# Altium footprint library MSP430_Task.PcbLib: 15 footprints
Each footprint in its own frame and in the unit in brackets; x right, y up, seen from the top. Pads: shape width x height; smd on the part's side, far side on the other; paste and mask are expansions set on the pad; w line width, h text height; cw(c..) or ccw(c..) is an arc to the next point about the centre after c.
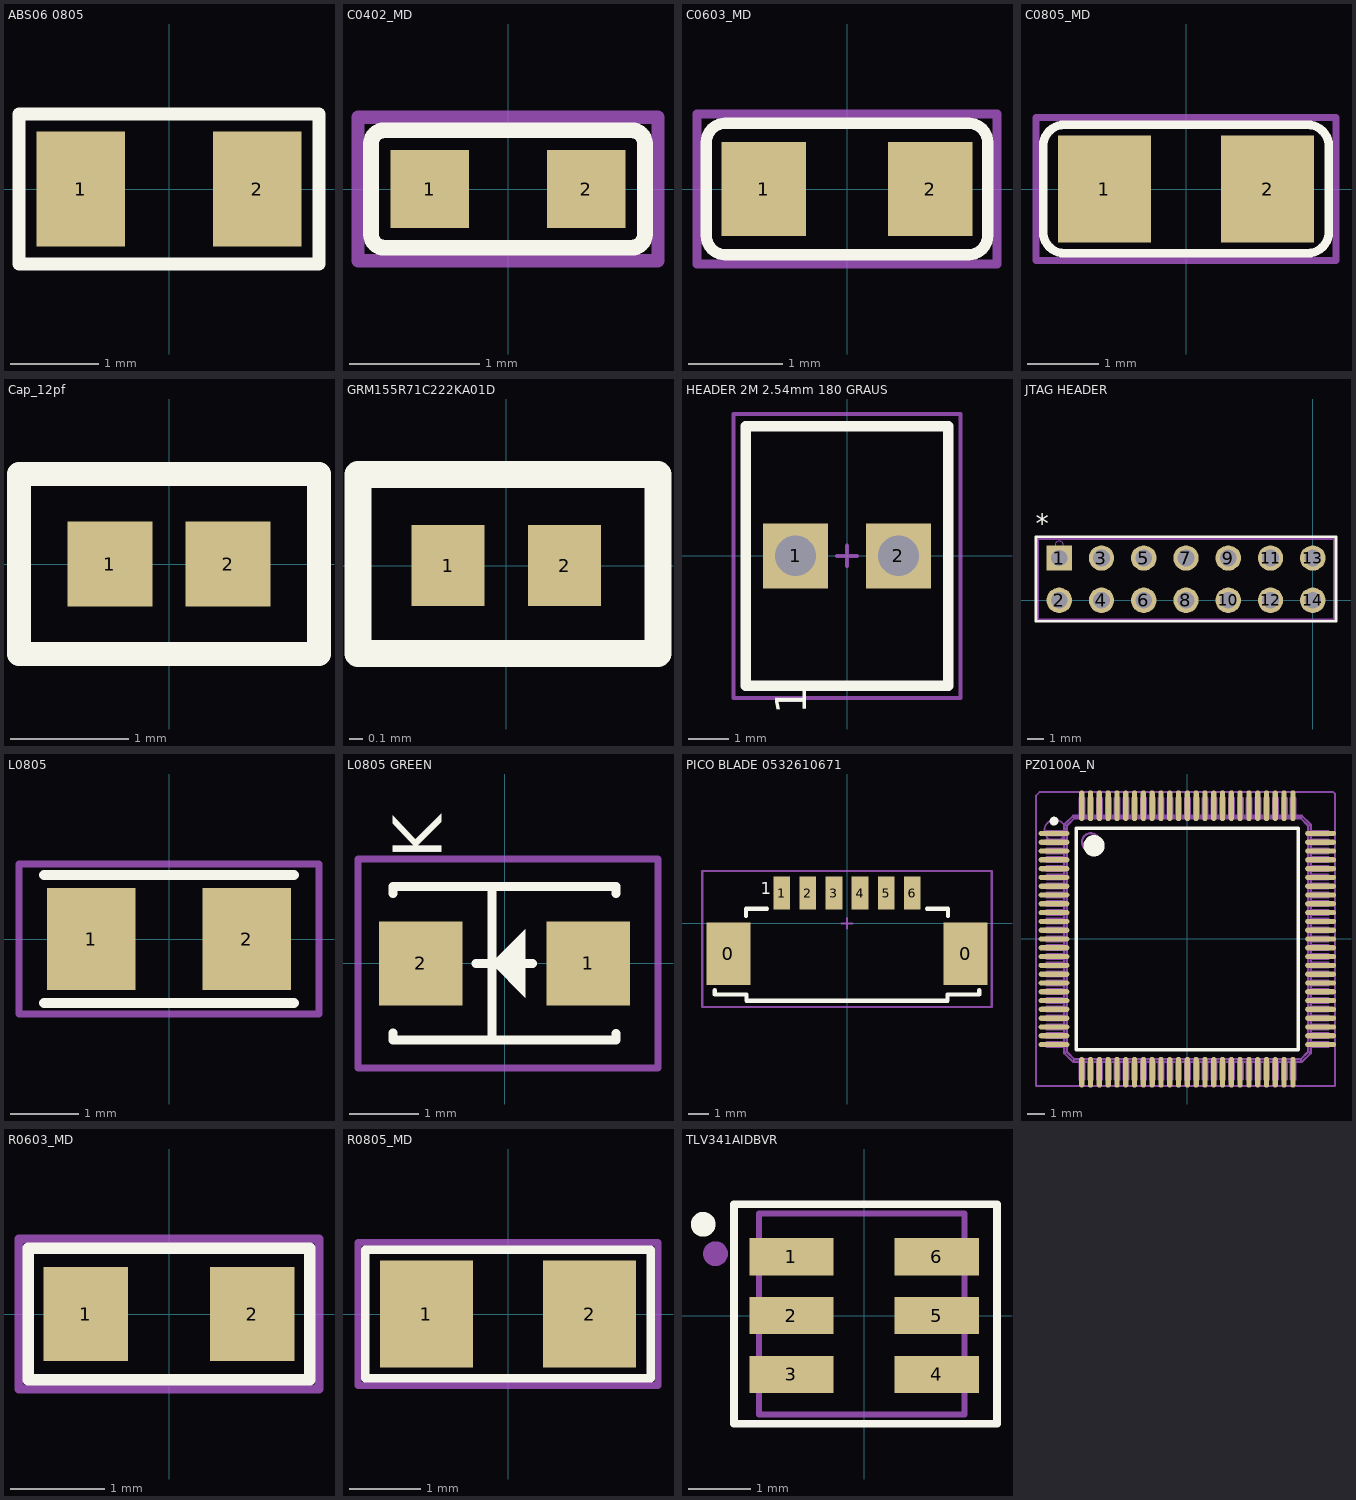
[diagram p0: the footprints below, top view; thin cyan lines are the x and y axes]

## ABS06 0805 [mm]
height 3.1
pads (2):
  rect 1x1.3 smd: 1(-1,0) 2(1,0)
Top Overlay:
  lines w0.15: -1.7,-0.85 1.7,-0.85 1.7,0.85 -1.7,0.85 -1.7,-0.85
Mechanical 15:
  lines w0.1: -1.7,-0.85 -1.7,0.85 ; -1.7,-0.85 1.7,-0.85 ; -1.7,-0.85 1.7,-0.85 ; -1.7,-0.85 -1.7,0.85 ; -1.7,0.85 1.7,0.85 ; -1.7,0.85 1.7,0.85 ; 1.7,-0.85 1.7,0.85 ; 1.7,-0.85 1.7,0.85
  text ".Designator" at -1.45,-0.25 h0.5
3D body "ABS06.STEP": height 0.6, standoff 0, extent -1,-0.61 1,0.61

## C0402_MD [mm] "Chip Capacitor, Body 1.0x0.5mm, IPC Medium Density"
height 0.6
pads (2):
  rect 0.6x0.6 smd: 1(-0.6,0) 2(0.6,0)
Top Overlay:
  lines w0.12: -1.05,-0.35 ccw(c-0.95,-0.35) -0.95,-0.45 0.95,-0.45 ccw(c0.95,-0.35) 1.05,-0.35 1.05,0.35 ccw(c0.95,0.35) 0.95,0.45 -0.95,0.45 ccw(c-0.95,0.35) -1.05,0.35 -1.05,-0.35
Mechanical 15:
  lines w0.1: -1.15,-0.55 -1.15,0.55 1.15,0.55 1.15,-0.55 -1.15,-0.55
  text "'.Designator'" at -0.95,-0.25 h0.5
3D body "C0402.step": height 0.51, standoff 0, extent -0.508,-0.254 0.508,0.254

## C0603_MD [mm] "Chip Capacitor, Body 1.6x0.8mm, IPC Medium Density"
height 0.85
pads (2):
  rect 0.9x1 smd: 1(-0.889,0) 2(0.889,0)
Top Overlay:
  lines w0.12: -1.5,-0.5 ccw(c-1.3,-0.5) -1.3,-0.7 1.3,-0.7 ccw(c1.3,-0.5) 1.5,-0.5 1.5,0.5 ccw(c1.3,0.5) 1.3,0.7 -1.3,0.7 ccw(c-1.3,0.5) -1.5,0.5 -1.5,-0.5
Mechanical 15:
  lines w0.1: -1.6,-0.8 1.6,-0.8 1.6,0.8 -1.6,0.8 -1.6,-0.8
  text "'.Designator'" at -1.425,-0.25 h0.5
3D body "C0603.step": height 0.79, standoff 0, extent -1,-0.406 1,0.381

## C0805_MD [mm] "Chip Capacitor, Body 2.0x1.3mm, IPC Medium Density"
height 1.1
pads (2):
  rect 1.3x1.5 smd: 1(-1.143,0) 2(1.143,0)
Top Overlay:
  lines w0.12: -2,-0.6 ccw(c-1.7,-0.6) -1.7,-0.9 1.7,-0.9 ccw(c1.7,-0.6) 2,-0.6 2,0.6 ccw(c1.7,0.6) 1.7,0.9 -1.7,0.9 ccw(c-1.7,0.6) -2,0.6 -2,-0.6
Mechanical 15:
  lines w0.1: -2.1,-1 -2.1,1 2.1,1 2.1,-1 -2.1,-1
  text "'.Designator'" at -1.85,-0.2 h0.5
3D body "C0805.step": height 0.79, standoff 0, extent -1.254,-0.61 1.254,0.635

## Cap_12pf [mm]
pads (2):
  rect 0.72x0.72 smd: 1(-0.5,0) 2(0.5,0)
Top Overlay:
  lines w0.2: -1.27,-0.762 1.27,-0.762 1.27,0.762 -1.27,0.762 -1.27,-0.762
Mechanical 15:
  lines w0.1: -1.27,-0.762 1.27,-0.762 1.27,0.762 -1.27,0.762 -1.27,-0.762
  text "'.Designator'" at -1.016,-0.254 h0.6
3D body "CBR04C120F5GAC.step": height 0.56, standoff 0.01, extent -0.525,-0.254 0.525,0.296

## GRM155R71C222KA01D [mm]
pads (2):
  rect 0.54x0.6 smd: 1(-0.432,0) 2(0.432,0)
Top Overlay:
  lines w0.2: -1.1,-0.65 -1.1,0.675 1.125,0.675 1.125,-0.65 -1.1,-0.65
Mechanical 15:
  lines w0.1: -1.1,-0.65 1.125,-0.65 1.125,0.675 -1.1,0.675 -1.1,-0.65
  text "'.Designator'" at -0.825,-0.2 h0.5
3D body "EVK105RH010BW-F--3DModel-STEP-46669.STEP": height 0.56, standoff 0.01, extent -0.5,-0.25 0.5,0.25

## HEADER 2M 2.54mm 180 GRAUS [mm] "HEADER 3M 2.54mm 180 GRAUS"
pads (2):
  rect 1.6x1.6 hole 1: 1(-1.27,0) 2(1.27,0)
Top Overlay:
  lines w0.254: -2.5,-3.2 -2.5,3.2 2.5,3.2 2.5,-3.2 -2.5,-3.2
  text "1" at -1,-3.9 h0.76
Mechanical 15:
  lines w0.1: -0.25,0 0.25,0 ; 0,-0.25 0,0.25 ; -2.8,-3.5 -2.8,3.5 2.8,3.5 2.8,-3.5 -2.8,-3.5
  text "'.Designator'" at -2.475,-2.975 h0.5
3D body "HEADER 2M 2.54mm 180 GRAUS.STEP": height 10.68, standoff -3.54, extent -2.54,-3.251 2.54,3.099

## JTAG HEADER [mil]
pads (14):
  rect 60x60 / inner round 60 / far side rect 60x60 hole 38 paste+0 mask+0: 1(-600,100)
  round 60 hole 40 paste+0 mask+0: 2(-600,0) 3(-500,100) 4(-500,0) 5(-400,100) 6(-400,0) 7(-300,100) 8(-300,0) 9(-200,100) 10(-200,0) 11(-100,100) 12(-100,0) 13(0,100) 14(0,0)
Top Overlay:
  lines w6: -655,-50 55,-50 55,150 -655,150 -655,-50
  text "*" at -655,143 h78.74
Mechanical 15:
  circle w0: c-600,130 r10
  lines w3.94: -650,-45 50,-45 50,145 -650,145 -650,-45
  text "'.Designator'" at -526.57,35.43 h39.37
3D body "67996-114HLF.step": height 350, standoff -200, extent -650,-55 50,145

## L0805 [mm]
pads (2):
  rect 1.3x1.5 smd: 1(-1.143,0) 2(1.143,0)
Top Overlay:
  lines w0.15: -1.829,-0.94 1.829,-0.94 ; -1.829,0.94 1.829,0.94
Mechanical 15:
  lines w0.1: -2.2,-1.1 2.2,-1.1 2.2,1.1 -2.2,1.1 -2.2,-1.1
  text "'.Designator'" at -1.775,-0.3 h0.5
3D body "User Library-Chip Inductor (2).step": height 0.95, standoff 0, extent -1,-0.6 1,0.6

## L0805 GREEN [mm]
height 2
pads (2):
  rect 1.2x1.2 smd paste+0: 1(1.2,0) 2(-1.2,0)
Top Overlay:
  region: -0.191,0 0.3,0.49 0.3,-0.49
  lines w0.127: -1.6,-1 -1.6,-1.1 1.6,-1.1 1.6,-1 ; -1.6,1 -1.6,1.1 1.2,1.1 1.6,1.1 ; -0.413,0 0.4,0 ; -0.181,-1.1 -0.181,1.1 ; 1.6,1 1.6,1.1 ; 1.6,1.1 1.6,1.1
  text "K" at -0.9,1.5 h0.7
Mechanical 15:
  lines w0.1: -2.1,-1.5 -2.1,1.5 2.2,1.5 2.2,-1.5 -2.1,-1.5
  text "'.Designator'" at -1.875,-0.275 h0.5
3D body "User Library-led_0805 (1).step": height 1.1, standoff 0, extent -1.01,-0.625 1.01,0.625

## PICO BLADE 0532610671 [mm]
height 3.4
pads (8):
  rect 2.1x3 smd: 0(-5.675,-1.45) 0(5.675,-1.45)
  rect 0.8x1.6 smd: 1(-3.125,1.45) 2(-1.875,1.45) 3(-0.625,1.45) 4(0.625,1.45) 5(1.875,1.45) 6(3.125,1.45)
Top Overlay:
  lines w0.2: -6.325,-3.2 -6.325,-3.4 -4.811,-3.4 -4.811,-3.7 4.811,-3.7 4.811,-3.4 6.325,-3.4 6.325,-3.2 ; -4.825,0.35 -4.825,0.7 -3.825,0.7 ; 3.825,0.7 4.825,0.7 4.825,0.35
  text "1" at -4.125,1.2 h1
Mechanical 15:
  lines w0.1: -0.25,0 0.25,0 ; 0,-0.25 0,0.25 ; -6.925,-4 -6.925,2.5 6.925,2.5 6.925,-4 -6.925,-4
  text "'.Designator'" at -5.425,-1.8 h1
3D body "User Library-molex 53261 white (4).step": height 3.5, standoff 0, extent -6.325,-3.6 6.325,1.6

## PZ0100A_N [mm]
height 3.1
pads (100):
  oval 1.75x0.3 smd paste-0.102 mask+0.051: 1(-7.575,6) 2(-7.575,5.5) 3(-7.575,5) 4(-7.575,4.5) 5(-7.575,4) 6(-7.575,3.5) 7(-7.575,3) 8(-7.575,2.5) 9(-7.575,2) 10(-7.575,1.5) 11(-7.575,1) 12(-7.575,0.5) 13(-7.575,0) 14(-7.575,-0.5) 15(-7.575,-1) 16(-7.575,-1.5) 17(-7.575,-2) 18(-7.575,-2.5) 19(-7.575,-3) 20(-7.575,-3.5) 21(-7.575,-4) 22(-7.575,-4.5) 23(-7.575,-5) 24(-7.575,-5.5) 25(-7.575,-6) 51(7.575,-6) 52(7.575,-5.5) 53(7.575,-5) 54(7.575,-4.5) 55(7.575,-4) 56(7.575,-3.5) 57(7.575,-3) 58(7.575,-2.5) 59(7.575,-2) 60(7.575,-1.5) 61(7.575,-1) 62(7.575,-0.5) 63(7.575,0) 64(7.575,0.5) 65(7.575,1) 66(7.575,1.5) 67(7.575,2) 68(7.575,2.5) 69(7.575,3) 70(7.575,3.5) 71(7.575,4) 72(7.575,4.5) 73(7.575,5) 74(7.575,5.5) 75(7.575,6)
  oval 0.3x1.75 smd paste-0.102 mask+0.051: 26(-6,-7.575) 27(-5.5,-7.575) 28(-5,-7.575) 29(-4.5,-7.575) 30(-4,-7.575) 31(-3.5,-7.575) 32(-3,-7.575) 33(-2.5,-7.575) 34(-2,-7.575) 35(-1.5,-7.575) 36(-1,-7.575) 37(-0.5,-7.575) 38(0,-7.575) 39(0.5,-7.575) 40(1,-7.575) 41(1.5,-7.575) 42(2,-7.575) 43(2.5,-7.575) 44(3,-7.575) 45(3.5,-7.575) 46(4,-7.575) 47(4.5,-7.575) 48(5,-7.575) 49(5.5,-7.575) 50(6,-7.575) 76(6,7.575) 77(5.5,7.575) 78(5,7.575) 79(4.5,7.575) 80(4,7.575) 81(3.5,7.575) 82(3,7.575) 83(2.5,7.575) 84(2,7.575) 85(1.5,7.575) 86(1,7.575) 87(0.5,7.575) 88(0,7.575) 89(-0.5,7.575) 90(-1,7.575) 91(-1.5,7.575) 92(-2,7.575) 93(-2.5,7.575) 94(-3,7.575) 95(-3.5,7.575) 96(-4,7.575) 97(-4.5,7.575) 98(-5,7.575) 99(-5.5,7.575) 100(-6,7.575)
Top Overlay:
  circle w0.6: c-5.3,5.3 r0.3
  circle w0.25: c-7.575,6.7 r0.125
  lines w0.2: -6.3,-6.3 6.3,-6.3 6.3,6.3 -6.3,6.3 -6.3,-6.3
Mechanical 4:
  drawing of 1326 lines, arcs and shapes, not listed
Mechanical 15:
  circle w0.1: c-7.525,6.175 r0.596
  lines w0.1: -8.6,-8.35 8.4,-8.35 8.4,8.25 8.3,8.35 -8.4,8.35 -8.6,8.15 -8.6,-8.35
  text ".Designator" at -3.26,4.646 h1
3D body "PZ100.step": height 1.6, standoff 0, extent -8.103,-8.103 8.103,8.103

## R0603_MD [mm] "Chip Resistor, Body 1.6x0.8mm, IPC Medium Density"
height 0.85
pads (2):
  rect 0.9x1 smd: 1(-0.889,0) 2(0.889,0)
Top Overlay:
  lines w0.12: -1.5,-0.7 1.5,-0.7 1.5,0.7 -1.5,0.7 -1.5,-0.7
Mechanical 15:
  lines w0.1: -1.6,-0.8 1.6,-0.8 1.6,0.8 -1.6,0.8 -1.6,-0.8
  text "'.Designator'" at -1.45,-0.3 h0.5
3D body "Flat Chip Resistor 0603(1608M).step": height 0.37, standoff 0, extent -0.8,-0.4 0.8,0.402

## R0805_MD [mm] "Chip Resistor, Body 2.0x1.3mm, IPC Medium Density"
height 1.1
pads (2):
  rect 1.3x1.5 smd: 1(-1.143,0) 2(1.143,0)
Top Overlay:
  lines w0.12: -2,-0.9 2,-0.9 2,0.9 -2,0.9 -2,-0.9
Mechanical 15:
  lines w0.1: -2.1,-1 -2.1,1 2.1,1 2.1,-1 -2.1,-1
  text "'.Designator'" at -1.85,-0.225 h0.5
3D body "Flat Chip Resistor 0805(2012M).step": height 0.47, standoff 0, extent -1,-0.625 1,0.627

## TLV341AIDBVR [mm]
pads (6):
  rect 1.36x0.6 smd: 1(-1.175,0.95) 2(-1.175,0) 3(-1.175,-0.95) 4(1.175,-0.95) 5(1.175,0) 6(1.175,0.95)
Top Overlay:
  circle w0.2: c-2.6,1.475 r0.1
  lines w0.127: -2.1,-1.75 2.15,-1.75 2.15,1.8 -2.1,1.8 -2.1,-1.75
Mechanical 15:
  circle w0.2: c-2.4,1 r0.1
  circle w0.1: c-2.4,1 r0.1
  lines w0.1: -1.7,-1.6 -1.7,1.65 1.625,1.65 1.625,-1.6 -1.7,-1.6
  text "'.Designator'" at -2.25,-0.925 h0.5
3D body "DBV0006A.stp": height 1.2, standoff 0, extent -1.4,-1.45 1.4,1.45